# Altium schematic symbol library SCH - CONNECTORS - GCT SIM8060-6-1-14-00-A.SCHLIB: 1 symbol
Pins are listed as number, name and electrical type; pins without a type are passive.

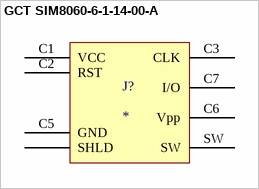
[diagram p0: symbol GCT SIM8060-6-1-14-00-A]

## GCT SIM8060-6-1-14-00-A
designator J?
pins: C1 VCC, C2 RST, C3 CLK, C5 GND, C6 Vpp, C7 I/O, S SHLD, SW